# EAGLE library part 612010235221 (library Wuerth_Elektronik_eiCan_05_Box_Header_IDC_Connectors_1_2)
WR-BHD 2.54mm Male Angled Box Header High Temperature, 10 Pins
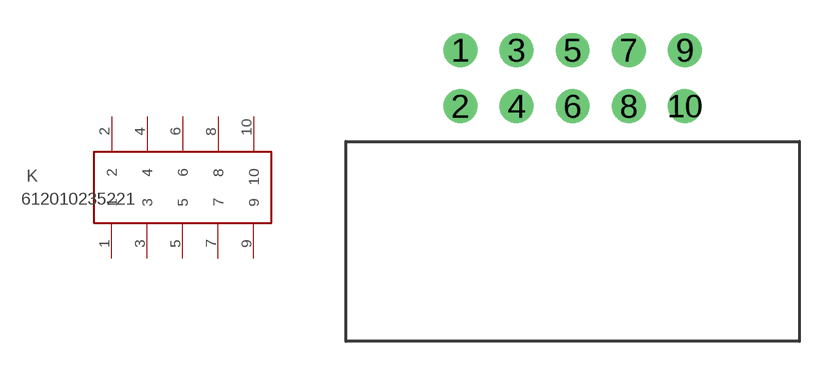
[diagram p114: symbol with the pads of 612010235221; footprint 612010235221]

Designator prefix K

## 612010235221  [612010235221]
1  1  pas
2  2  pas
3  3  pas
4  4  pas
5  5  pas
6  6  pas
7  7  pas
8  8  pas
9  9  pas
10  10  pas

## Footprint 612010235221 (pad centres in mm)
WR-BHD 2.54mm Male Angled Box Header High Temperature, 10 Pins
drill 1.02: 1 -7.62,1.27; 2 -7.62,-1.27; 3 -5.08,1.27; 4 -5.08,-1.27; 5 -2.54,1.27; 6 -2.54,-1.27; 7 0,1.27; 8 0,-1.27; 9 2.54,1.27; 10 2.54,-1.27